# EAGLE library part WEIDM-1825890000 (library StealthEE v8)
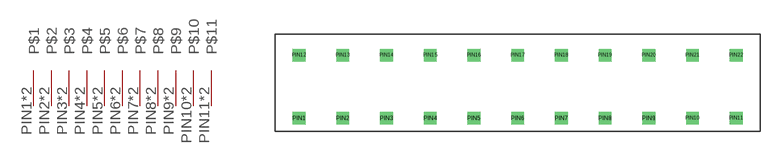
[diagram p6: symbol with the pads of WEIDM-1825890000; footprint WEIDM-1825890000]

Designator prefix -

## WEIDM-1825890000  [WEIDM-1825890000]
PIN1  P$1
PIN2  P$2
PIN3  P$3
PIN4  P$4
PIN5  P$5
PIN6  P$6
PIN7  P$7
PIN8  P$8
PIN9  P$9
PIN10  P$10
PIN11  P$11
PIN12  P$1
PIN13  P$2
PIN14  P$3
PIN15  P$4
PIN16  P$5
PIN17  P$6
PIN18  P$7
PIN19  P$8
PIN20  P$9
PIN21  P$10
PIN22  P$11

## Footprint WEIDM-1825890000 (pad centres in mm)
drill 0.6 square: PIN1 0,0; PIN2 3.81,0; PIN3 7.62,0; PIN4 11.43,0; PIN5 15.24,0; PIN6 19.05,0; PIN7 22.86,0; PIN8 26.67,0; PIN9 30.48,0; PIN10 34.29,0; PIN11 38.1,0; PIN12 0,5.5; PIN13 3.81,5.5; PIN14 7.62,5.5; PIN15 11.43,5.5; PIN16 15.24,5.5; PIN17 19.05,5.5; PIN18 22.86,5.5; PIN19 26.67,5.5; PIN20 30.48,5.5; PIN21 34.29,5.5; PIN22 38.1,5.5